# Altium schematic symbol library Schlib1.SchLib: 3 symbols
Pins are listed as number, name and electrical type; pins without a type are passive.

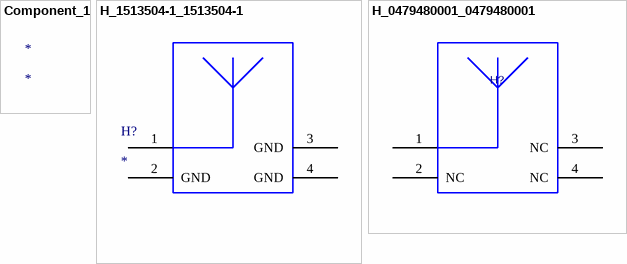
[diagram p0: symbols Component_1 to H_0479480001_0479480001]

## Component_1
designator *

## H_1513504-1_1513504-1
designator H?
footprint 1513504-1
pins: 1, 2 GND, 3 GND (power), 4 GND (power)

## H_0479480001_0479480001
designator H?  (value not drawn)
footprint Model Name (Footprint not found)
footprint 0479480001
pins: 1, 2 NC, 3 NC, 4 NC